# Altium footprint library POWERDI-123.PcbLib: 1 footprints
Each footprint in its own frame and in the unit in brackets; x right, y up, seen from the top. Pads: shape width x height; smd on the part's side, far side on the other; paste and mask are expansions set on the pad; w line width, h text height; cw(c..) or ccw(c..) is an arc to the next point about the centre after c.
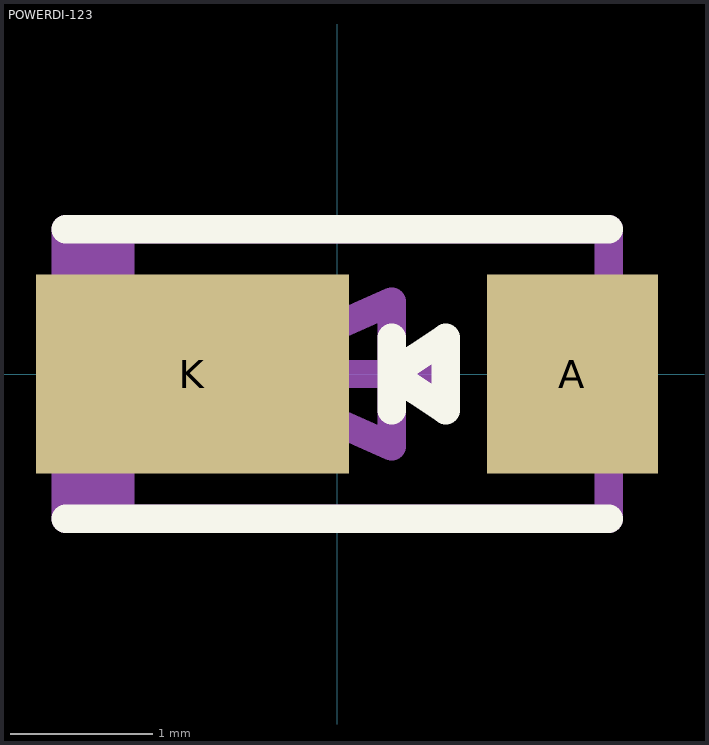
[diagram p0: the footprint, top view; thin cyan lines are the x and y axes]

## POWERDI-123 [mm]
pads (2):
  rect 1.2x1.4 smd: A(1.651,0)
  rect 2.2x1.4 smd: K(-1.016,0)
Top Overlay:
  lines w0.2: -1.905,-1.016 1.905,-1.016 ; -1.905,1.016 1.905,1.016 ; 0.381,-0.254 0.381,0.254 ; 0.381,0 0.762,-0.254 0.762,0.254 0.381,0
Mechanical 13:
  lines w0.2: -1.778,-1.016 -1.778,1.016 ; -1.651,-1.016 -1.651,1.016 ; -1.524,-1.016 -1.524,1.016 ; -1.016,0 0.762,0 ; -0.762,-0.508 -0.762,0.508 ; -1.905,-1.016 -1.905,1.016 1.905,1.016 1.905,-1.016 -1.905,-1.016 ; -0.762,0 0.381,-0.508 0.381,0.508 -0.762,0
  text ".Designator" at -2.413,-2.794 h2.5
3D body: height 1, standoff 0, extent -1.95,-0.964 1.95,0.966